# Altium schematic symbol library WE-XHMI_7030.Schlib: 1 symbol
Pins are listed as number, name and electrical type; pins without a type are passive.

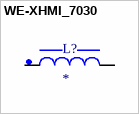
[diagram p0: symbol WE-XHMI_7030]

## WE-XHMI_7030
designator L?
pins: 1, 2